# Altium schematic symbol library ARDevelopmentPlat.SchLib: 5 symbols
Pins are listed as number, name and electrical type; pins without a type are passive.

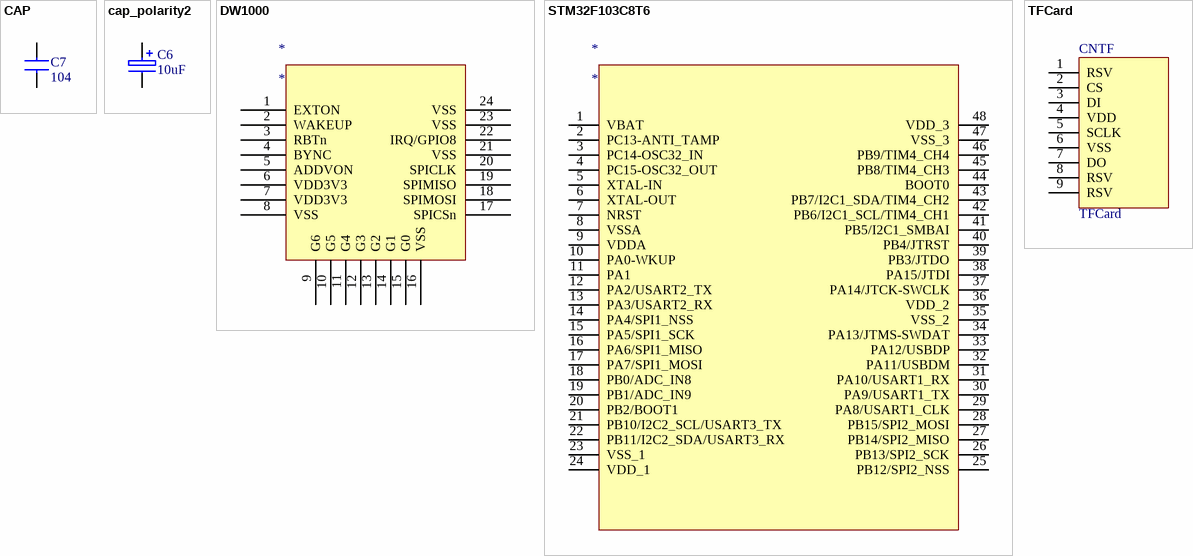
[diagram p0: symbols CAP to TFCard]

## CAP
designator C7, comment 104
Capacitor
footprint C0402 (Chip Capacitor, 2-Leads, Body 1.00x0.50mm, IPC Medium Density)
pins: 1, 2
2 alternate drawings of the same symbol

## cap_polarity2
designator C6, comment 10uF
Electrolytic Capacitor
footprint 3216C
pins: 1, 2

## DW1000
designator *
footprint DWM1000
pins: 1 EXTON, 2 WAKEUP, 3 RBTn, 4 BYNC, 5 ADDVON, 6 VDD3V3, 7 VDD3V3, 8 VSS, 9 G6, 10 G5, 11 G4, 12 G3, 13 G2, 14 G1, 15 G0, 16 VSS, 17 SPICSn, 18 SPIMOSI, 19 SPIMISO, 20 SPICLK, 21 VSS, 22 IRQ/GPIO8, 23 VSS, 24 VSS

## STM32F103C8T6
designator *
pins: 1 VBAT, 2 PC13-ANTI_TAMP, 3 PC14-OSC32_IN, 4 PC15-OSC32_OUT, 5 XTAL-IN, 6 XTAL-OUT, 7 NRST, 8 VSSA, 9 VDDA, 10 PA0-WKUP, 11 PA1, 12 PA2/USART2_TX, 13 PA3/USART2_RX, 14 PA4/SPI1_NSS, 15 PA5/SPI1_SCK, 16 PA6/SPI1_MISO, 17 PA7/SPI1_MOSI, 18 PB0/ADC_IN8, 19 PB1/ADC_IN9, 20 PB2/BOOT1, 21 PB10/I2C2_SCL/USART3_TX, 22 PB11/I2C2_SDA/USART3_RX, 23 VSS_1, 24 VDD_1, 25 PB12/SPI2_NSS, 26 PB13/SPI2_SCK, 27 PB14/SPI2_MISO, 28 PB15/SPI2_MOSI, 29 PA8/USART1_CLK, 30 PA9/USART1_TX, 31 PA10/USART1_RX, 32 PA11/USBDM, 33 PA12/USBDP, 34 PA13/JTMS-SWDAT, 35 VSS_2, 36 VDD_2, 37 PA14/JTCK-SWCLK, 38 PA15/JTDI, 39 PB3/JTDO, 40 PB4/JTRST, 41 PB5/I2C1_SMBAI, 42 PB6/I2C1_SCL/TIM4_CH1, 43 PB7/I2C1_SDA/TIM4_CH2, 44 BOOT0, 45 PB8/TIM4_CH3, 46 PB9/TIM4_CH4, 47 VSS_3, 48 VDD_3

## TFCard
designator CNTF
footprint MICRO SD
pins: 1 RSV, 2 CS, 3 DI, 4 VDD, 5 SCLK, 6 VSS, 7 DO, 8 RSV, 9 RSV